# Altium schematic symbol library WE-WPCC.SchLib: 65 symbols (part 1 of 2)
Pins are listed as number, name and electrical type; pins without a type are passive.

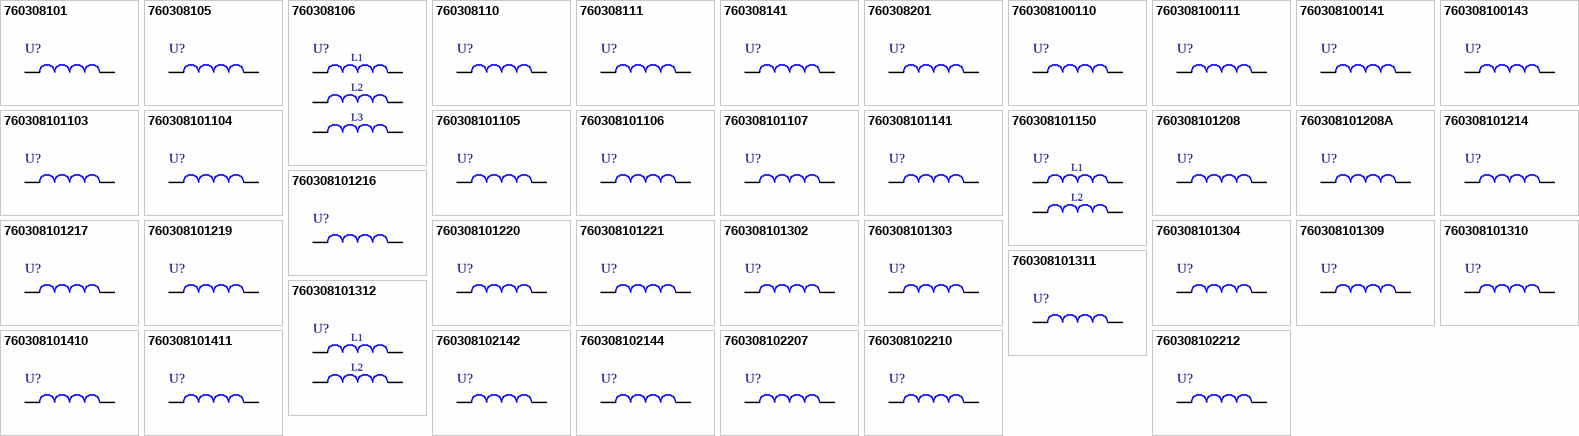
[diagram p0: symbols 760308101 to 760308102212]

## 760308101
designator U?, comment 24μH  (value not drawn)
WE-WPCC Wireless Power Transfer Transmitter Coil, THT, Qi - A1, 24μH, 100W; Manufacturer Part Number: 760308101; Manufacturer: Wurth Elektronik; Compliance: Qi - A1; DC Resistance Max: 100mΩ; Q Factor: 90; Rated Current: 6A; Self Resonant Frequency: 6MHz; Category: Wireless Power Transmission; Match Code: WE-WPCC; ComponentLink1Description: Website Link; ComponentLink1URL: https://www.we-online.com/redexpert/article/760308101?ad; ComponentLink2Description: Datasheet Link; ComponentLink2URL: https://www.we-online.com/redexpert/spec/760308101?ad; Mount: Through Hole; Min Operating Temperature: -20°C; Max Operating Temperature: 105°C; Packaging: Tray; Length: 53mm; Width: 53mm; Height: 6mm; Inductance: 24μH; Power Capability: 100W
footprint 760308101
pins: 1, 2

## 760308105
designator U?, comment 6.3μH  (value not drawn)
WE-WPCC Wireless Power Transfer Transmitter Coil, THT, Qi - A5, 6.3μH, 200W; Manufacturer Part Number: 760308105; Manufacturer: Wurth Elektronik; Compliance: Qi - A5; DC Resistance Max: 25mΩ; Q Factor: 55; Rated Current: 13A; Self Resonant Frequency: 20MHz; Category: Wireless Power Transmission; Match Code: WE-WPCC; ComponentLink1Description: Website Link; ComponentLink1URL: https://www.we-online.com/redexpert/article/760308105?ad; ComponentLink2Description: Datasheet Link; ComponentLink2URL: https://www.we-online.com/redexpert/spec/760308105?ad; Mount: Through Hole; Min Operating Temperature: -20°C; Max Operating Temperature: 105°C; Packaging: Tray; Length: 53mm; Width: 53mm; Height: 6mm; Inductance: 6.3μH; Power Capability: 200W
footprint 760308105
pins: 1, 2

## 760308106
designator U?, comment 12.5μH / 11.5μH / 12.5μH  (value not drawn)
WE-WPCC Wireless Power Array, THT, Qi - A6, 12.5μH / 11.5μH / 12.5μH, 150W; Manufacturer Part Number: 760308106; Manufacturer: Wurth Elektronik; Compliance: Qi - A6; DC Resistance Max: 65mΩ; Q Factor: 125; Rated Current: 9A; Self Resonant Frequency: 14MHz; Category: Wireless Power Transmission; Match Code: WE-WPCC; ComponentLink1Description: Website Link; ComponentLink1URL: https://www.we-online.com/redexpert/article/760308106?ad; ComponentLink2Description: Datasheet Link; ComponentLink2URL: https://www.we-online.com/redexpert/spec/760308106?ad; Mount: Through Hole; Min Operating Temperature: -20°C; Max Operating Temperature: 105°C; Packaging: Tray; Length: 130mm; Width: 55mm; Height: 8mm; DC Resistance Max 2: 65mΩ; DC Resistance Max 3: 65mΩ; Inductance: 12.5μH; Inductance 2: 11.5μH; Inductance 3: 12.5μH; Power Capability: 150W; Q Factor 2: 125; Q Factor 3: 125; Rated Current 2: 9A; Rated Current 3: 9A; Self Resonant Frequency 2: 14MHz; Self Resonant Frequency 3: 14MHz
footprint 760308106
pins: 1, 2, 3, 4, 5, 6
text: L1; L2; L3

## 760308110
designator U?, comment 24μH  (value not drawn)
WE-WPCC Wireless Power Transfer Transmitter Coil, THT, Qi - A10; MP-A1/A7, 24μH, 100W; Manufacturer Part Number: 760308110; Manufacturer: Wurth Elektronik; DC Resistance Max: 100mΩ; Q Factor: 180; Rated Current: 6A; Self Resonant Frequency: 5MHz; Category: Wireless Power Transmission; Match Code: WE-WPCC; ComponentLink1Description: Website Link; ComponentLink1URL: https://www.we-online.com/redexpert/article/760308110?ad; ComponentLink2Description: Datasheet Link; ComponentLink2URL: https://www.we-online.com/redexpert/spec/760308110?ad; Mount: Through Hole; Min Operating Temperature: -20°C; Max Operating Temperature: 105°C; Packaging: Tray; Length: 53mm; Width: 53mm; Height: 6mm; Compliance: Qi - A10; MP-A1/A7; Inductance: 24μH; Power Capability: 100W
footprint 760308110
pins: 1, 2

## 760308111
designator U?, comment 6.3μH  (value not drawn)
WE-WPCC Wireless Power Transfer Transmitter Coil, THT, Qi - A11; MP-A11, 6.3μH, 200W; Manufacturer Part Number: 760308111; Manufacturer: Wurth Elektronik; DC Resistance Max: 25mΩ; Q Factor: 80; Rated Current: 13A; Self Resonant Frequency: 20MHz; Category: Wireless Power Transmission; Match Code: WE-WPCC; ComponentLink1Description: Website Link; ComponentLink1URL: https://www.we-online.com/redexpert/article/760308111?ad; ComponentLink2Description: Datasheet Link; ComponentLink2URL: https://www.we-online.com/redexpert/spec/760308111?ad; Mount: Through Hole; Min Operating Temperature: -20°C; Max Operating Temperature: 105°C; Packaging: Tray; Length: 53mm; Width: 53mm; Height: 6mm; Compliance: Qi - A11; MP-A11; Inductance: 6.3μH; Power Capability: 200W
footprint 760308111
pins: 1, 2

## 760308141
designator U?, comment 10μH  (value not drawn)
WE-WPCC Wireless Power Transfer Transmitter Coil, THT, Qi - A29; MP-A5, 10μH, 150W; Manufacturer Part Number: 760308141; Manufacturer: Wurth Elektronik; DC Resistance Max: 30mΩ; Q Factor: 200; Rated Current: 9A; Self Resonant Frequency: 11MHz; Category: Wireless Power Transmission; Match Code: WE-WPCC; ComponentLink1Description: Website Link; ComponentLink1URL: https://www.we-online.com/redexpert/article/760308141?ad; ComponentLink2Description: Datasheet Link; ComponentLink2URL: https://www.we-online.com/redexpert/spec/760308141?ad; Mount: Through Hole; Min Operating Temperature: -20°C; Max Operating Temperature: 105°C; Packaging: Tray; Length: 53mm; Width: 53mm; Height: 6mm; Compliance: Qi - A29; MP-A5; Inductance: 10μH; Power Capability: 150W
footprint 760308141
pins: 1, 2

## 760308201
designator U?, comment 10μH  (value not drawn)
WE-WPCC Wireless Power Transfer Receiver Coil, THT, works with Qi Rx IC's, 10μH, 60W; Manufacturer Part Number: 760308201; Manufacturer: Wurth Elektronik; DC Resistance Max: 200mΩ; Q Factor: 50; Rated Current: 3.5A; Self Resonant Frequency: 15MHz; Category: Wireless Power Transmission; Match Code: WE-WPCC; ComponentLink1Description: Website Link; ComponentLink1URL: https://www.we-online.com/redexpert/article/760308201?ad; ComponentLink2Description: Datasheet Link; ComponentLink2URL: https://www.we-online.com/redexpert/spec/760308201?ad; Mount: Through Hole; Min Operating Temperature: -20°C; Max Operating Temperature: 105°C; Packaging: Tray; Length: 37mm; Width: 37mm; Height: 1.8mm; Compliance: works with Qi Rx IC's; Inductance: 10μH; Power Capability: 60W
footprint 760308201
pins: 1, 2

## 760308100110
designator U?, comment 24μH  (value not drawn)
WE-WPCC Wireless Power Transfer Transmitter Coil, THT, Qi - A10; MP-A1/A7, 24μH, 100W; Manufacturer Part Number: 760308100110; Manufacturer: Wurth Elektronik; DC Resistance Max: 100mΩ; Q Factor: 180; Rated Current: 6A; Self Resonant Frequency: 5MHz; Category: Wireless Power Transmission; Match Code: WE-WPCC; ComponentLink1Description: Website Link; ComponentLink1URL: https://www.we-online.com/redexpert/article/760308100110?ad; ComponentLink2Description: Datasheet Link; ComponentLink2URL: https://www.we-online.com/redexpert/spec/760308100110?ad; Mount: Through Hole; Min Operating Temperature: -20°C; Max Operating Temperature: 105°C; Packaging: Tray; Height: 6mm; Diameter: 50mm; Compliance: Qi - A10; MP-A1/A7; Inductance: 24μH; Power Capability: 100W
footprint 760308100110
pins: 1, 2

## 760308100111
designator U?, comment 6.3μH  (value not drawn)
WE-WPCC Wireless Power Transfer Transmitter Coil, THT, Qi - A11; MP-A11, 6.3μH, 100W; Manufacturer Part Number: 760308100111; Manufacturer: Wurth Elektronik; DC Resistance Max: 51mΩ; Q Factor: 120; Rated Current: 6A; Self Resonant Frequency: 24MHz; Category: Wireless Power Transmission; Match Code: WE-WPCC; ComponentLink1Description: Website Link; ComponentLink1URL: https://www.we-online.com/redexpert/article/760308100111?ad; ComponentLink2Description: Datasheet Link; ComponentLink2URL: https://www.we-online.com/redexpert/spec/760308100111?ad; Mount: Through Hole; Min Operating Temperature: -20°C; Max Operating Temperature: 105°C; Packaging: Tray; Height: 6mm; Diameter: 50mm; Compliance: Qi - A11; MP-A11; Inductance: 6.3μH; Power Capability: 100W
footprint 760308100111
pins: 1, 2

## 760308100141
designator U?, comment 10μH  (value not drawn)
WE-WPCC Wireless Power Transfer Transmitter Coil, THT, Qi - A29; MP-A5, 10μH, 150W; Manufacturer Part Number: 760308100141; Manufacturer: Wurth Elektronik; DC Resistance Max: 30mΩ; Q Factor: 180; Rated Current: 9A; Self Resonant Frequency: 11MHz; Category: Wireless Power Transmission; Match Code: WE-WPCC; ComponentLink1Description: Website Link; ComponentLink1URL: https://www.we-online.com/redexpert/article/760308100141?ad; ComponentLink2Description: Datasheet Link; ComponentLink2URL: https://www.we-online.com/redexpert/spec/760308100141?ad; Mount: Through Hole; Min Operating Temperature: -20°C; Max Operating Temperature: 105°C; Packaging: Tray; Height: 6mm; Diameter: 50mm; Compliance: Qi - A29; MP-A5; Inductance: 10μH; Power Capability: 150W
footprint 760308100141
pins: 1, 2

## 760308100143
designator U?, comment 6μH  (value not drawn)
WE-WPCC Wireless Power Transfer Transmitter Coil, THT, works with Qi Tx IC's, 6μH, 200W; Manufacturer Part Number: 760308100143; Manufacturer: Wurth Elektronik; DC Resistance Max: 18mΩ; Q Factor: 180; Rated Current: 12A; Self Resonant Frequency: 16MHz; Category: Wireless Power Transmission; Match Code: WE-WPCC; ComponentLink1Description: Website Link; ComponentLink1URL: https://www.we-online.com/redexpert/article/760308100143?ad; ComponentLink2Description: Datasheet Link; ComponentLink2URL: https://www.we-online.com/redexpert/spec/760308100143?ad; Mount: Through Hole; Min Operating Temperature: -20°C; Max Operating Temperature: 105°C; Packaging: Tray; Height: 6.7mm; Diameter: 50mm; Compliance: works with Qi Tx IC's; Inductance: 6μH; Power Capability: 200W
footprint 760308100143
pins: 1, 2

## 760308101103
designator U?, comment 6.5μH  (value not drawn)
WE-WPCC Wireless Power Transfer Transmitter Coil, THT, works with Qi Tx IC's, 6.5μH, 50W; Manufacturer Part Number: 760308101103; Manufacturer: Wurth Elektronik; DC Resistance Max: 200mΩ; Q Factor: 35; Rated Current: 3A; Self Resonant Frequency: 20MHz; Category: Wireless Power Transmission; Match Code: WE-WPCC; ComponentLink1Description: Website Link; ComponentLink1URL: https://www.we-online.com/redexpert/article/760308101103?ad; ComponentLink2Description: Datasheet Link; ComponentLink2URL: https://www.we-online.com/redexpert/spec/760308101103?ad; Mount: Through Hole; Min Operating Temperature: -20°C; Max Operating Temperature: 105°C; Packaging: Tray; Height: 1.9mm; Diameter: 30mm; Compliance: works with Qi Tx IC's; Inductance: 6.5μH; Power Capability: 50W
footprint 760308101103
pins: 1, 2

## 760308101104
designator U?, comment 6.8μH  (value not drawn)
WE-WPCC Wireless Power Transfer Transmitter Coil, THT, works with Qi Tx IC's, 6.8μH, 50W; Manufacturer Part Number: 760308101104; Manufacturer: Wurth Elektronik; DC Resistance Max: 130mΩ; Q Factor: 42; Rated Current: 2.5A; Self Resonant Frequency: 20MHz; Category: Wireless Power Transmission; Match Code: WE-WPCC; ComponentLink1Description: Website Link; ComponentLink1URL: https://www.we-online.com/redexpert/article/760308101104?ad; ComponentLink2Description: Datasheet Link; ComponentLink2URL: https://www.we-online.com/redexpert/spec/760308101104?ad; Mount: Through Hole; Min Operating Temperature: -20°C; Max Operating Temperature: 105°C; Packaging: Tray; Height: 2.8mm; Diameter: 20mm; Compliance: works with Qi Tx IC's; Inductance: 6.8μH; Power Capability: 50W
footprint 760308101104
pins: 1, 2

## 760308101105
designator U?, comment 3.3μH  (value not drawn)
WE-WPCC Wireless Power Transfer Transmitter Coil, THT, works with Qi Tx IC's, 3.3μH, 50W; Manufacturer Part Number: 760308101105; Manufacturer: Wurth Elektronik; DC Resistance Max: 90mΩ; Q Factor: 30; Rated Current: 3A; Self Resonant Frequency: 20MHz; Category: Wireless Power Transmission; Match Code: WE-WPCC; ComponentLink1Description: Website Link; ComponentLink1URL: https://www.we-online.com/redexpert/article/760308101105?ad; ComponentLink2Description: Datasheet Link; ComponentLink2URL: https://www.we-online.com/redexpert/spec/760308101105?ad; Mount: Through Hole; Min Operating Temperature: -20°C; Max Operating Temperature: 105°C; Packaging: Tray; Height: 2.8mm; Diameter: 20mm; Compliance: works with Qi Tx IC's; Inductance: 3.3μH; Power Capability: 50W
footprint 760308101105
pins: 1, 2

## 760308101106
designator U?, comment 2.5μH  (value not drawn)
WE-WPCC Wireless Power Transfer Transmitter Coil, THT, works with Qi Tx IC's, 2.5μH, 50W; Manufacturer Part Number: 760308101106; Manufacturer: Wurth Elektronik; DC Resistance Max: 90mΩ; Q Factor: 30; Rated Current: 2.5A; Self Resonant Frequency: 38MHz; Category: Wireless Power Transmission; Match Code: WE-WPCC; ComponentLink1Description: Website Link; ComponentLink1URL: https://www.we-online.com/redexpert/article/760308101106?ad; ComponentLink2Description: Datasheet Link; ComponentLink2URL: https://www.we-online.com/redexpert/spec/760308101106?ad; Mount: Through Hole; Min Operating Temperature: -20°C; Max Operating Temperature: 105°C; Packaging: Tray; Height: 2.8mm; Diameter: 20mm; Compliance: works with Qi Tx IC's; Inductance: 2.5μH; Power Capability: 50W
footprint 760308101106
pins: 1, 2

## 760308101107
designator U?, comment 24μH  (value not drawn)
WE-WPCC Wireless Power Transfer Transmitter Coil, THT, works with Qi Tx IC's, 24μH, 40W; Manufacturer Part Number: 760308101107; Manufacturer: Wurth Elektronik; DC Resistance Max: 315mΩ; Q Factor: 55; Rated Current: 2A; Self Resonant Frequency: 7.5MHz; Category: Wireless Power Transmission; Match Code: WE-WPCC; ComponentLink1Description: Website Link; ComponentLink1URL: https://www.we-online.com/redexpert/article/760308101107?ad; ComponentLink2Description: Datasheet Link; ComponentLink2URL: https://www.we-online.com/redexpert/spec/760308101107?ad; Mount: Through Hole; Min Operating Temperature: -20°C; Max Operating Temperature: 105°C; Packaging: Tray; Height: 2.8mm; Diameter: 31mm; Compliance: works with Qi Tx IC's; Inductance: 24μH; Power Capability: 40W
footprint 760308101107
pins: 1, 2

## 760308101141
designator U?, comment 10μH  (value not drawn)
WE-WPCC Wireless Power Transfer Transmitter Coil, THT, Qi - A29; MP-A5, 10μH, 150W; Manufacturer Part Number: 760308101141; Manufacturer: Wurth Elektronik; DC Resistance Max: 30mΩ; Q Factor: 220; Rated Current: 9A; Self Resonant Frequency: 11MHz; Category: Wireless Power Transmission; Match Code: WE-WPCC; ComponentLink1Description: Website Link; ComponentLink1URL: https://www.we-online.com/redexpert/article/760308101141?ad; ComponentLink2Description: Datasheet Link; ComponentLink2URL: https://www.we-online.com/redexpert/spec/760308101141?ad; Mount: Through Hole; Min Operating Temperature: -20°C; Max Operating Temperature: 105°C; Packaging: Tray; Height: 5mm; Diameter: 50mm; Compliance: Qi - A29; MP-A5; Inductance: 10μH; Power Capability: 150W
footprint 760308101141
pins: 1, 2

## 760308101150
designator U?, comment 6.3μH / 1.2μH  (value not drawn)
WE-WPCC Wireless Power Transfer Transmitter Coil, THT, Qi - Airfuel Alliance - NFC, 6.3μH / 1.2μH, 100W; Manufacturer Part Number: 760308101150; Manufacturer: Wurth Elektronik; DC Resistance Max: 48mΩ; DC Resistance Max 2: 55mΩ; Q Factor: 100; Q Factor 2: 80; Rated Current: 7.5A; Rated Current 2: 7A; Self Resonant Frequency: 27MHz; Self Resonant Frequency 2: 48MHz; Category: Wireless Power Transmission; Match Code: WE-WPCC; ComponentLink1Description: Website Link; ComponentLink1URL: https://www.we-online.com/redexpert/article/760308101150?ad; ComponentLink2Description: Datasheet Link; ComponentLink2URL: https://www.we-online.com/redexpert/spec/760308101150?ad; Mount: Through Hole; Min Operating Temperature: -20°C; Max Operating Temperature: 105°C; Packaging: Tray; Height: 3.5mm; Diameter: 65mm; Compliance: Qi - Airfuel Alliance - NFC; Inductance: 6.3μH; Inductance 2: 1.2μH; Power Capability: 100W
footprint 760308101150
pins: 1, 2, 3, 4
text: L1; L2

## 760308101208
designator U?, comment 13μH  (value not drawn)
WE-WPCC Wireless Power Transfer Receiver Coil, THT, works with Qi Rx IC's, 13μH, 15W; Manufacturer Part Number: 760308101208; Manufacturer: Wurth Elektronik; DC Resistance Max: 500mΩ; Q Factor: 17; Rated Current: 0.8A; Self Resonant Frequency: 26MHz; Category: Wireless Power Transmission; Match Code: WE-WPCC; ComponentLink1Description: Website Link; ComponentLink1URL: https://www.we-online.com/redexpert/article/760308101208?ad; ComponentLink2Description: Datasheet Link; ComponentLink2URL: https://www.we-online.com/redexpert/spec/760308101208?ad; Mount: Through Hole; Min Operating Temperature: -20°C; Max Operating Temperature: 105°C; Packaging: Tray; Height: 1.6mm; Diameter: 10mm; Compliance: works with Qi Rx IC's; Inductance: 13μH; Power Capability: 15W
footprint 760308101208
pins: 1, 2

## 760308101208A
designator U?, comment 18μH  (value not drawn)
WE-WPCC Wireless Power Transfer Receiver Coil, THT, works with Qi Rx IC's, 18μH, 15W; Manufacturer Part Number: 760308101208A; Manufacturer: Wurth Elektronik; DC Resistance Max: 650mΩ; Q Factor: 18; Rated Current: 0.7A; Self Resonant Frequency: 24MHz; Category: Wireless Power Transmission; Match Code: WE-WPCC; ComponentLink1Description: Website Link; ComponentLink1URL: https://www.we-online.com/redexpert/article/760308101208A?ad; ComponentLink2Description: Datasheet Link; ComponentLink2URL: https://www.we-online.com/redexpert/spec/760308101208A?ad; Mount: Through Hole; Min Operating Temperature: -20°C; Max Operating Temperature: 105°C; Packaging: Tray; Height: 1.6mm; Diameter: 10mm; Compliance: works with Qi Rx IC's; Inductance: 18μH; Power Capability: 15W
footprint 760308101208A
pins: 1, 2

## 760308101214
designator U?, comment 26μH  (value not drawn)
WE-WPCC Wireless Power Transfer Receiver Coil, THT, works with Qi Rx IC's, 26μH, 20W; Manufacturer Part Number: 760308101214; Manufacturer: Wurth Elektronik; DC Resistance Max: 520mΩ; Q Factor: 25; Rated Current: 1.1A; Self Resonant Frequency: 11MHz; Category: Wireless Power Transmission; Match Code: WE-WPCC; ComponentLink1Description: Website Link; ComponentLink1URL: https://www.we-online.com/redexpert/article/760308101214?ad; ComponentLink2Description: Datasheet Link; ComponentLink2URL: https://www.we-online.com/redexpert/spec/760308101214?ad; Mount: Through Hole; Min Operating Temperature: -20°C; Max Operating Temperature: 105°C; Packaging: Tray; Height: 0.8mm; Diameter: 19mm; Compliance: works with Qi Rx IC's; Inductance: 26μH; Power Capability: 20W
footprint 760308101214
pins: 1, 2

## 760308101216
designator U?, comment 7.2μH  (value not drawn)
WE-WPCC Wireless Power Transfer Receiver Coil, THT, works with Qi Rx IC's, 7.2μH, 5W; Manufacturer Part Number: 760308101216; Manufacturer: Wurth Elektronik; DC Resistance Max: 450mΩ; Q Factor: 10; Rated Current: 0.8A; Self Resonant Frequency: 32MHz; Category: Wireless Power Transmission; Match Code: WE-WPCC; ComponentLink1Description: Website Link; ComponentLink1URL: https://www.we-online.com/redexpert/article/760308101216?ad; ComponentLink2Description: Datasheet Link; ComponentLink2URL: https://www.we-online.com/redexpert/spec/760308101216?ad; Mount: Through Hole; Min Operating Temperature: -20°C; Max Operating Temperature: 105°C; Packaging: Tray; Height: 2mm; Diameter: 6mm; Compliance: works with Qi Rx IC's; Inductance: 7.2μH; Power Capability: 5W
footprint 760308101216
pins: 1, 2

## 760308101217
designator U?, comment 24.2μH  (value not drawn)
WE-WPCC Wireless Power Transfer Receiver Coil, THT, works with Qi Rx IC's, 24.2μH, 5W; Manufacturer Part Number: 760308101217; Manufacturer: Wurth Elektronik; DC Resistance Max: 1400mΩ; Q Factor: 13; Rated Current: 0.4A; Self Resonant Frequency: 17.5MHz; Category: Wireless Power Transmission; Match Code: WE-WPCC; ComponentLink1Description: Website Link; ComponentLink1URL: https://www.we-online.com/redexpert/article/760308101217?ad; ComponentLink2Description: Datasheet Link; ComponentLink2URL: https://www.we-online.com/redexpert/spec/760308101217?ad; Mount: Through Hole; Min Operating Temperature: -20°C; Max Operating Temperature: 105°C; Packaging: Tray; Height: 1.8mm; Diameter: 10mm; Compliance: works with Qi Rx IC's; Inductance: 24.2μH; Power Capability: 5W
footprint 760308101217
pins: 1, 2

## 760308101219
designator U?, comment 11.8μH  (value not drawn)
WE-WPCC Wireless Power Transfer Receiver Coil, THT, works with Qi Rx IC's, 11.8μH, 5W; Manufacturer Part Number: 760308101219; Manufacturer: Wurth Elektronik; DC Resistance Max: 750mΩ; Q Factor: 13; Rated Current: 0.7A; Self Resonant Frequency: 22MHz; Category: Wireless Power Transmission; Match Code: WE-WPCC; ComponentLink1Description: Website Link; ComponentLink1URL: https://www.we-online.com/redexpert/article/760308101219?ad; ComponentLink2Description: Datasheet Link; ComponentLink2URL: https://www.we-online.com/redexpert/spec/760308101219?ad; Mount: Through Hole; Min Operating Temperature: -20°C; Max Operating Temperature: 105°C; Packaging: Tray; Height: 0.6mm; Diameter: 15mm; Compliance: works with Qi Rx IC's; Inductance: 11.8μH; Power Capability: 5W
footprint 760308101219
pins: 1, 2

## 760308101220
designator U?, comment 12.6μH  (value not drawn)
WE-WPCC Wireless Power Transfer Receiver Coil, THT, works with Qi Rx IC's, 12.6μH, 20W; Manufacturer Part Number: 760308101220; Manufacturer: Wurth Elektronik; DC Resistance Max: 360mΩ; Q Factor: 20; Rated Current: 1.1A; Self Resonant Frequency: 19MHz; Category: Wireless Power Transmission; Match Code: WE-WPCC; ComponentLink1Description: Website Link; ComponentLink1URL: https://www.we-online.com/redexpert/article/760308101220?ad; ComponentLink2Description: Datasheet Link; ComponentLink2URL: https://www.we-online.com/redexpert/spec/760308101220?ad; Mount: Through Hole; Min Operating Temperature: -20°C; Max Operating Temperature: 105°C; Packaging: Tray; Height: 0.8mm; Diameter: 17mm; Compliance: works with Qi Rx IC's; Inductance: 12.6μH; Power Capability: 20W
footprint 760308101220
pins: 1, 2

## 760308101221
designator U?, comment 24μH  (value not drawn)
WE-WPCC Wireless Power Transfer Receiver Coil, THT, works with Qi Rx IC's, 24μH, 5W; Manufacturer Part Number: 760308101221; Manufacturer: Wurth Elektronik; DC Resistance Max: 1150mΩ; Q Factor: 16; Rated Current: 0.4A; Self Resonant Frequency: 10MHz; Category: Wireless Power Transmission; Match Code: WE-WPCC; ComponentLink1Description: Website Link; ComponentLink1URL: https://www.we-online.com/redexpert/article/760308101221?ad; ComponentLink2Description: Datasheet Link; ComponentLink2URL: https://www.we-online.com/redexpert/spec/760308101221?ad; Mount: Through Hole; Min Operating Temperature: -20°C; Max Operating Temperature: 105°C; Packaging: Tray; Height: 4.3mm; Diameter: 6mm; Compliance: works with Qi Rx IC's; Inductance: 24μH; Power Capability: 5W
footprint 760308101221
pins: 1, 2

## 760308101302
designator U?, comment 5.3μH  (value not drawn)
WE-WPCC Wireless Power Transfer Transmitter Coil, THT, works with Qi Tx IC's, 5.3μH, 100W; Manufacturer Part Number: 760308101302; Manufacturer: Wurth Elektronik; DC Resistance Max: 35mΩ; Q Factor: 100; Rated Current: 8A; Self Resonant Frequency: 27MHz; Category: Wireless Power Transmission; Match Code: WE-WPCC; ComponentLink1Description: Website Link; ComponentLink1URL: https://www.we-online.com/redexpert/article/760308101302?ad; ComponentLink2Description: Datasheet Link; ComponentLink2URL: https://www.we-online.com/redexpert/spec/760308101302?ad; Mount: Through Hole; Min Operating Temperature: -20°C; Max Operating Temperature: 105°C; Packaging: Tray; Height: 4.7mm; Diameter: 50mm; Compliance: works with Qi Tx IC's; Inductance: 5.3μH; Power Capability: 100W
footprint 760308101302
pins: 1, 2

## 760308101303
designator U?, comment 47μH  (value not drawn)
WE-WPCC Wireless Power Transfer Receiver Coil, THT, works with Qi Rx IC's, 47μH, 20W; Manufacturer Part Number: 760308101303; Manufacturer: Wurth Elektronik; DC Resistance Max: 500mΩ; Q Factor: 25; Rated Current: 1.5A; Self Resonant Frequency: 8MHz; Category: Wireless Power Transmission; Match Code: WE-WPCC; ComponentLink1Description: Website Link; ComponentLink1URL: https://www.we-online.com/redexpert/article/760308101303?ad; ComponentLink2Description: Datasheet Link; ComponentLink2URL: https://www.we-online.com/redexpert/spec/760308101303?ad; Mount: Through Hole; Min Operating Temperature: -20°C; Max Operating Temperature: 105°C; Packaging: Tray; Height: 1.3mm; Diameter: 26mm; Compliance: works with Qi Rx IC's; Inductance: 47μH; Power Capability: 20W
footprint 760308101303
pins: 1, 2

## 760308101304
designator U?, comment 6.3μH  (value not drawn)
WE-WPCC Wireless Power Transfer Transmitter Coil, THT, Qi-A11; MP-A11, 6.3μH, 100W; Manufacturer Part Number: 760308101304; Manufacturer: Wurth Elektronik; DC Resistance Max: 48mΩ; Q Factor: 115; Rated Current: 8A; Self Resonant Frequency: 16MHz; Category: Wireless Power Transmission; Match Code: WE-WPCC; ComponentLink1Description: Website Link; ComponentLink1URL: https://www.we-online.com/redexpert/article/760308101304?ad; ComponentLink2Description: Datasheet Link; ComponentLink2URL: https://www.we-online.com/redexpert/spec/760308101304?ad; Mount: Through Hole; Min Operating Temperature: -20°C; Max Operating Temperature: 105°C; Packaging: Tray; Height: 3mm; Diameter: 48mm; Compliance: Qi-A11; MP-A11; Inductance: 6.3μH; Power Capability: 100W
footprint 760308101304
pins: 1, 2

## 760308101309
designator U?, comment 10μH  (value not drawn)
WE-WPCC Wireless Power Transfer Receiver Coil, THT, works with Qi Rx IC's, 10μH, 20W; Manufacturer Part Number: 760308101309; Manufacturer: Wurth Elektronik; DC Resistance Max: 450mΩ; Q Factor: 20; Rated Current: 1.5A; Self Resonant Frequency: 19MHz; Category: Wireless Power Transmission; Match Code: WE-WPCC; ComponentLink1Description: Website Link; ComponentLink1URL: https://www.we-online.com/redexpert/article/760308101309?ad; ComponentLink2Description: Datasheet Link; ComponentLink2URL: https://www.we-online.com/redexpert/spec/760308101309?ad; Mount: Through Hole; Min Operating Temperature: -20°C; Max Operating Temperature: 105°C; Packaging: Tray; Height: 0.5mm; Diameter: 26mm; Compliance: works with Qi Rx IC's; Inductance: 10μH; Power Capability: 20W
footprint 760308101309
pins: 1, 2

## 760308101310
designator U?, comment 24μH  (value not drawn)
WE-WPCC Wireless Power Transfer Transmitter Coil, THT, works with Qi Tx IC's, 24μH, 100W; Manufacturer Part Number: 760308101310; Manufacturer: Wurth Elektronik; DC Resistance Max: 110mΩ; Q Factor: 155; Rated Current: 7.5A; Self Resonant Frequency: 7.7MHz; Category: Wireless Power Transmission; Match Code: WE-WPCC; ComponentLink1Description: Website Link; ComponentLink1URL: https://www.we-online.com/redexpert/article/760308101310?ad; ComponentLink2Description: Datasheet Link; ComponentLink2URL: https://www.we-online.com/redexpert/spec/760308101310?ad; Mount: Through Hole; Min Operating Temperature: -20°C; Max Operating Temperature: 105°C; Packaging: Tray; Height: 3.3mm; Diameter: 75mm; Compliance: works with Qi Tx IC's; Inductance: 24μH; Power Capability: 100W
footprint 760308101310
pins: 1, 2

## 760308101311
designator U?, comment 5.8μH  (value not drawn)
WE-WPCC Wireless Power Transfer Receiver Coil, THT, works with Qi Tx IC's, 5.8μH, 400W; Manufacturer Part Number: 760308101311; Manufacturer: Wurth Elektronik; DC Resistance Max: 14mΩ; Q Factor: 220; Rated Current: 21A; Self Resonant Frequency: 13MHz; Category: Wireless Power Transmission; Match Code: WE-WPCC; ComponentLink1Description: Website Link; ComponentLink1URL: https://www.we-online.com/redexpert/article/760308101311?ad; ComponentLink2Description: Datasheet Link; ComponentLink2URL: https://www.we-online.com/redexpert/spec/760308101311?ad; Mount: Through Hole; Min Operating Temperature: -20°C; Max Operating Temperature: 105°C; Packaging: Tray; Height: 8.5mm; Diameter: 70mm; Compliance: works with Qi Tx IC's; Inductance: 5.8μH; Power Capability: 400W
footprint 760308101311
pins: 1, 2

## 760308101312
designator U?, comment 24μH / 0.7μH  (value not drawn)
WE-WPCC WPT/NFC Combination Coil, THT, Qi - Airfuel Alliance - NFC, 24μH / 0.7μH, 100W; Manufacturer Part Number: 760308101312; Manufacturer: Wurth Elektronik; DC Resistance Max: 90mΩ; DC Resistance Max 2: 30mΩ; Q Factor: 125; Q Factor 2: 30; Rated Current: 6A; Rated Current 2: 13A; Self Resonant Frequency: 7MHz; Self Resonant Frequency 2: 63MHz; Category: Wireless Power Transmission; Match Code: WE-WPCC; ComponentLink1Description: Website Link; ComponentLink1URL: https://www.we-online.com/redexpert/article/760308101312?ad; ComponentLink2Description: Datasheet Link; ComponentLink2URL: https://www.we-online.com/redexpert/spec/760308101312?ad; Mount: Through Hole; Min Operating Temperature: -20°C; Max Operating Temperature: 105°C; Packaging: Tray; Height: 4mm; Diameter: 54mm; Compliance: Qi - Airfuel Alliance - NFC; Inductance: 24μH; Inductance 2: 0.7μH; Power Capability: 100W
footprint 760308101312
pins: 1, 2, 3, 4
text: L1; L2

## 760308101410
designator U?, comment 24μH  (value not drawn)
WE-WPCC Wireless Power Transfer Transmitter Coil, THT, works with Qi Tx IC's, 24μH, 100W; Manufacturer Part Number: 760308101410; Manufacturer: Wurth Elektronik; DC Resistance Max: 100mΩ; Q Factor: 170; Rated Current: 5.5A; Self Resonant Frequency: 6MHz; Category: Wireless Power Transmission; Match Code: WE-WPCC; ComponentLink1Description: Website Link; ComponentLink1URL: https://www.we-online.com/redexpert/article/760308101410?ad; ComponentLink2Description: Datasheet Link; ComponentLink2URL: https://www.we-online.com/redexpert/spec/760308101410?ad; Mount: Through Hole; Min Operating Temperature: -20°C; Max Operating Temperature: 105°C; Packaging: Tray; Height: 3.1mm; Diameter: 50mm; Compliance: works with Qi Tx IC's; Inductance: 24μH; Power Capability: 100W
footprint 760308101410
pins: 1, 2

## 760308101411
designator U?, comment 6.3μH  (value not drawn)
WE-WPCC Wireless Power Transfer Transmitter Coil, THT, works with Qi Tx IC's, 6.3μH, 150W; Manufacturer Part Number: 760308101411; Manufacturer: Wurth Elektronik; DC Resistance Max: 48mΩ; Q Factor: 110; Rated Current: 7.5A; Self Resonant Frequency: 20MHz; Category: Wireless Power Transmission; Match Code: WE-WPCC; ComponentLink1Description: Website Link; ComponentLink1URL: https://www.we-online.com/redexpert/article/760308101411?ad; ComponentLink2Description: Datasheet Link; ComponentLink2URL: https://www.we-online.com/redexpert/spec/760308101411?ad; Mount: Through Hole; Min Operating Temperature: -20°C; Max Operating Temperature: 105°C; Packaging: Tray; Height: 2.8mm; Diameter: 50mm; Compliance: works with Qi Tx IC's; Inductance: 6.3μH; Power Capability: 150W
footprint 760308101411
pins: 1, 2

## 760308102142
designator U?, comment 5.8μH  (value not drawn)
WE-WPCC Wireless Power Transfer Transmitter Coil, THT, works with Qi Tx IC's, 5.8μH, 300W; Manufacturer Part Number: 760308102142; Manufacturer: Wurth Elektronik; DC Resistance Max: 12mΩ; Q Factor: 100; Rated Current: 18A; Self Resonant Frequency: 12MHz; Category: Wireless Power Transmission; Match Code: WE-WPCC; ComponentLink1Description: Website Link; ComponentLink1URL: https://www.we-online.com/redexpert/article/760308102142?ad; ComponentLink2Description: Datasheet Link; ComponentLink2URL: https://www.we-online.com/redexpert/spec/760308102142?ad; Mount: Through Hole; Min Operating Temperature: -20°C; Max Operating Temperature: 105°C; Packaging: Tray; Length: 53mm; Width: 53mm; Height: 6.5mm; Compliance: works with Qi Tx IC's; Inductance: 5.8μH; Power Capability: 300W
footprint 760308102142
pins: 1, 2

## 760308102144
designator U?, comment 19.5μH  (value not drawn)
WE-WPCC Wireless Power Transfer Transmitter Coil, THT, works with Qi Tx IC's, 19.5μH, 200W; Manufacturer Part Number: 760308102144; Manufacturer: Wurth Elektronik; DC Resistance Max: 45mΩ; Q Factor: 220; Rated Current: 9.5A; Self Resonant Frequency: 5MHz; Category: Wireless Power Transmission; Match Code: WE-WPCC; ComponentLink1Description: Website Link; ComponentLink1URL: https://www.we-online.com/redexpert/article/760308102144?ad; ComponentLink2Description: Datasheet Link; ComponentLink2URL: https://www.we-online.com/redexpert/spec/760308102144?ad; Mount: Through Hole; Min Operating Temperature: -20°C; Max Operating Temperature: 105°C; Packaging: Tray; Length: 53mm; Width: 53mm; Height: 7mm; Compliance: works with Qi Tx IC's; Inductance: 19.5μH; Power Capability: 200W
footprint 760308102144
pins: 1, 2

## 760308102207
designator U?, comment 8μH  (value not drawn)
WE-WPCC Wireless Power Transfer Receiver Coil, THT, works with Qi Rx IC's, 8μH, 80W; Manufacturer Part Number: 760308102207; Manufacturer: Wurth Elektronik; DC Resistance Max: 80mΩ; Q Factor: 30; Rated Current: 5A; Self Resonant Frequency: 16MHz; Category: Wireless Power Transmission; Match Code: WE-WPCC; ComponentLink1Description: Website Link; ComponentLink1URL: https://www.we-online.com/redexpert/article/760308102207?ad; ComponentLink2Description: Datasheet Link; ComponentLink2URL: https://www.we-online.com/redexpert/spec/760308102207?ad; Mount: Through Hole; Min Operating Temperature: -20°C; Max Operating Temperature: 105°C; Packaging: Tray; Length: 40mm; Width: 40mm; Height: 1.2mm; Compliance: works with Qi Rx IC's; Inductance: 8μH; Power Capability: 80W
footprint 760308102207
pins: 1, 2

## 760308102210
designator U?, comment 7.5μH  (value not drawn)
WE-WPCC Wireless Power Transfer Receiver Coil, THT, Qi - Airfuel Alliance, 7.5μH, 50W; Manufacturer Part Number: 760308102210; Manufacturer: Wurth Elektronik; DC Resistance Max: 180mΩ; Q Factor: 45; Rated Current: 3A; Self Resonant Frequency: 22MHz; Category: Wireless Power Transmission; Match Code: WE-WPCC; ComponentLink1Description: Website Link; ComponentLink1URL: https://www.we-online.com/redexpert/article/760308102210?ad; ComponentLink2Description: Datasheet Link; ComponentLink2URL: https://www.we-online.com/redexpert/spec/760308102210?ad; Mount: Through Hole; Min Operating Temperature: -20°C; Max Operating Temperature: 105°C; Packaging: Tray; Length: 37mm; Width: 37mm; Height: 1.8mm; Compliance: Qi - Airfuel Alliance; Inductance: 7.5μH; Power Capability: 50W
footprint 760308102210
pins: 1, 2

## 760308102212
designator U?, comment 5.4μH  (value not drawn)
WE-WPCC Wireless Power Transfer Receiver Coil, THT, works with Qi Rx IC's, 5.4μH, 30W; Manufacturer Part Number: 760308102212; Manufacturer: Wurth Elektronik; DC Resistance Max: 240mΩ; Q Factor: 18; Rated Current: 2A; Self Resonant Frequency: 25MHz; Category: Wireless Power Transmission; Match Code: WE-WPCC; ComponentLink1Description: Website Link; ComponentLink1URL: https://www.we-online.com/redexpert/article/760308102212?ad; ComponentLink2Description: Datasheet Link; ComponentLink2URL: https://www.we-online.com/redexpert/spec/760308102212?ad; Mount: Through Hole; Min Operating Temperature: -20°C; Max Operating Temperature: 105°C; Packaging: Tray; Length: 29mm; Width: 29mm; Height: 0.6mm; Compliance: works with Qi Rx IC's; Inductance: 5.4μH; Power Capability: 30W
footprint 760308102212
pins: 1, 2

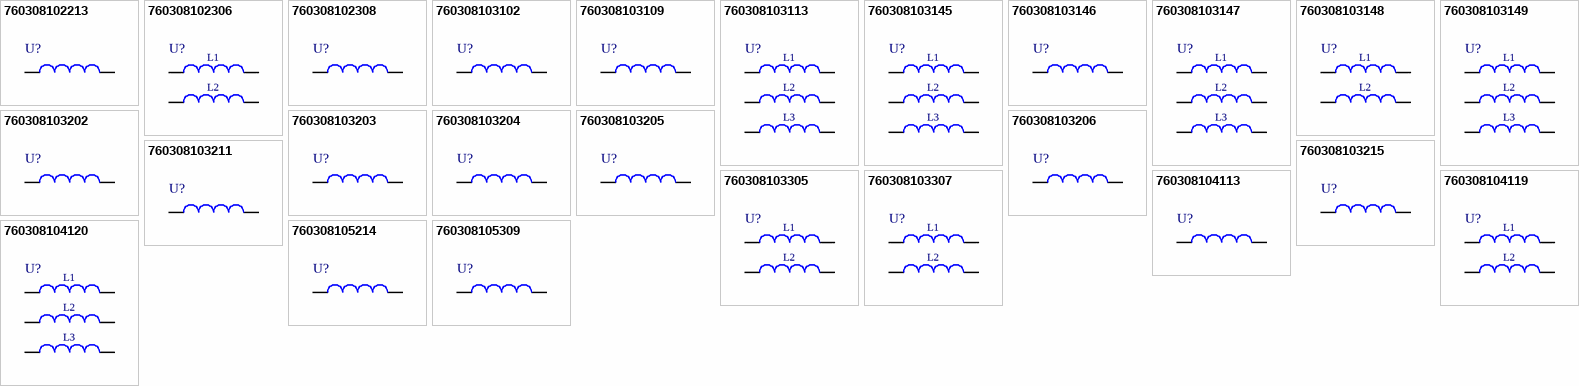
[diagram p1: symbols 760308102213 to 760308105309]

## 760308102213
designator U?, comment 7.9μH  (value not drawn)
WE-WPCC Wireless Power Transfer Receiver Coil, THT, Qi - Airfuel Alliance, 7.9μH, 30W; Manufacturer Part Number: 760308102213; Manufacturer: Wurth Elektronik; DC Resistance Max: 330mΩ; Q Factor: 18; Rated Current: 1.7A; Self Resonant Frequency: 21MHz; Category: Wireless Power Transmission; Match Code: WE-WPCC; ComponentLink1Description: Website Link; ComponentLink1URL: https://www.we-online.com/redexpert/article/760308102213?ad; ComponentLink2Description: Datasheet Link; ComponentLink2URL: https://www.we-online.com/redexpert/spec/760308102213?ad; Mount: Through Hole; Min Operating Temperature: -20°C; Max Operating Temperature: 105°C; Packaging: Tray; Length: 29mm; Width: 29mm; Height: 0.6mm; Compliance: Qi - Airfuel Alliance; Inductance: 7.9μH; Power Capability: 30W
footprint 760308102213
pins: 1, 2

## 760308102306
designator U?, comment 8μH / 1.4μH  (value not drawn)
WE-WPCC WPT/NFC Combination Coil, THT, Qi - Airfuel Alliance - NFC, 8μH / 1.4μH, 40W; Manufacturer Part Number: 760308102306; Manufacturer: Wurth Elektronik; DC Resistance Max: 400mΩ; DC Resistance Max 2: 100mΩ; Q Factor: 19; Q Factor 2: 47; Rated Current: 2A; Rated Current 2: 5A; Self Resonant Frequency: 17.5MHz; Self Resonant Frequency 2: 50MHz; Category: Wireless Power Transmission; Match Code: WE-WPCC; ComponentLink1Description: Website Link; ComponentLink1URL: https://www.we-online.com/redexpert/article/760308102306?ad; ComponentLink2Description: Datasheet Link; ComponentLink2URL: https://www.we-online.com/redexpert/spec/760308102306?ad; Mount: Through Hole; Min Operating Temperature: -20°C; Max Operating Temperature: 105°C; Packaging: Tray; Length: 44mm; Width: 44mm; Height: 1mm; Compliance: Qi - Airfuel Alliance - NFC; Inductance: 8μH; Inductance 2: 1.4μH; Power Capability: 40W
footprint 760308102306
pins: 1, 2, 3, 4
text: L1; L2

## 760308102308
designator U?, comment 3μH  (value not drawn)
WE-WPCC Wireless Power Transfer Transmitter Coil, THT, works with Qi Tx IC's, 3μH, 150W; Manufacturer Part Number: 760308102308; Manufacturer: Wurth Elektronik; DC Resistance Max: 35mΩ; Q Factor: 60; Rated Current: 8.5A; Self Resonant Frequency: 27MHz; Category: Wireless Power Transmission; Match Code: WE-WPCC; ComponentLink1Description: Website Link; ComponentLink1URL: https://www.we-online.com/redexpert/article/760308102308?ad; ComponentLink2Description: Datasheet Link; ComponentLink2URL: https://www.we-online.com/redexpert/spec/760308102308?ad; Mount: Through Hole; Min Operating Temperature: -20°C; Max Operating Temperature: 105°C; Packaging: Tray; Length: 50mm; Width: 30mm; Height: 2.4mm; Compliance: works with Qi Tx IC's; Inductance: 3μH; Power Capability: 150W
footprint 760308102308
pins: 1, 2

## 760308103102
designator U?, comment 10μH  (value not drawn)
WE-WPCC Wireless Power Transfer Transmitter Coil, THT, Qi - MP-A2, 10μH, 150W; Manufacturer Part Number: 760308103102; Manufacturer: Wurth Elektronik; DC Resistance Max: 55mΩ; Q Factor: 130; Rated Current: 7A; Self Resonant Frequency: 11MHz; Category: Wireless Power Transmission; Match Code: WE-WPCC; ComponentLink1Description: Website Link; ComponentLink1URL: https://www.we-online.com/redexpert/article/760308103102?ad; ComponentLink2Description: Datasheet Link; ComponentLink2URL: https://www.we-online.com/redexpert/spec/760308103102?ad; Mount: Through Hole; Min Operating Temperature: -20°C; Max Operating Temperature: 105°C; Packaging: Tray; Length: 53mm; Width: 53mm; Height: 4.5mm; Compliance: Qi - MP-A2; Inductance: 10μH; Power Capability: 150W
footprint 760308103102
pins: 1, 2

## 760308103109
designator U?, comment 10.2μH  (value not drawn)
WE-WPCC Wireless Power Transfer Transmitter Coil, THT, Qi - MP - A9, 10.2μH, 150W; Manufacturer Part Number: 760308103109; Manufacturer: Wurth Elektronik; DC Resistance Max: 50mΩ; Q Factor: 130; Rated Current: 9A; Self Resonant Frequency: 11MHz; Category: Wireless Power Transmission; Match Code: WE-WPCC; ComponentLink1Description: Website Link; ComponentLink1URL: https://www.we-online.com/redexpert/article/760308103109?ad; ComponentLink2Description: Datasheet Link; ComponentLink2URL: https://www.we-online.com/redexpert/spec/760308103109?ad; Mount: Through Hole; Min Operating Temperature: -20°C; Max Operating Temperature: 105°C; Packaging: Tray; Length: 57mm; Width: 51mm; Height: 4.2mm; Compliance: Qi - MP - A9; Inductance: 10.2μH; Power Capability: 150W
footprint 760308103109
pins: 1, 2

## 760308103113
designator U?, comment 12.5μH / 11.5μH / 12.5μH  (value not drawn)
WE-WPCC Wireless Power Array, THT, Qi - MP-A13 3-coil array, 12.5μH / 11.5μH / 12.5μH, 150W; Manufacturer Part Number: 760308103113; Manufacturer: Wurth Elektronik; DC Resistance Max: 65mΩ; Q Factor: 125; Q Factor 2: 115; Rated Current: 9A; Self Resonant Frequency: 14MHz; Category: Wireless Power Transmission; Match Code: WE-WPCC; ComponentLink1Description: Website Link; ComponentLink1URL: https://www.we-online.com/redexpert/article/760308103113?ad; ComponentLink2Description: Datasheet Link; ComponentLink2URL: https://www.we-online.com/redexpert/spec/760308103113?ad; Mount: Through Hole; Min Operating Temperature: -20°C; Max Operating Temperature: 105°C; Packaging: Tray; Length: 100mm; Width: 55mm; Height: 4.5mm; Compliance: Qi - MP-A13 3-coil array; DC Resistance Max 2: 65mΩ; DC Resistance Max 3: 65mΩ; Inductance: 12.5μH; Inductance 2: 11.5μH; Inductance 3: 12.5μH; Power Capability: 150W; Q Factor 3: 125; Rated Current 2: 9A; Rated Current 3: 9A; Self Resonant Frequency 2: 14MHz; Self Resonant Frequency 3: 14MHz
footprint 760308103113
pins: 1, 2, 3, 4, 5, 6
text: L1; L2; L3

## 760308103145
designator U?, comment 11.3μH / 11.3μH / 11.3μH  (value not drawn)
WE-WPCC Wireless Power Array, THT, Qi - MP-A6, 11.3μH / 11.3μH / 11.3μH, 150W; Manufacturer Part Number: 760308103145; Manufacturer: Wurth Elektronik; DC Resistance Max: 83mΩ; Q Factor: 150; Q Factor 3: 145; Rated Current: 8.5A; Self Resonant Frequency: 10MHz; Category: Wireless Power Transmission; Match Code: WE-WPCC; ComponentLink1Description: Website Link; ComponentLink1URL: https://www.we-online.com/redexpert/article/760308103145?ad; ComponentLink2Description: Datasheet Link; ComponentLink2URL: https://www.we-online.com/redexpert/spec/760308103145?ad; Mount: Through Hole; Min Operating Temperature: -20°C; Max Operating Temperature: 105°C; Packaging: Tray; Length: 109mm; Width: 56mm; Height: 5.2mm; Compliance: Qi - MP-A6; DC Resistance Max 2: 83mΩ; DC Resistance Max 3: 83mΩ; Inductance: 11.3μH; Inductance 2: 11.3μH; Inductance 3: 11.3μH; Power Capability: 150W; Q Factor 2: 150; Rated Current 2: 8.5A; Rated Current 3: 8.5A; Self Resonant Frequency 2: 10MHz; Self Resonant Frequency 3: 10MHz
footprint 760308103145
pins: 1, 2, 3, 4, 5, 6
text: L1; L2; L3

## 760308103146
designator U?, comment 8.5μH  (value not drawn)
WE-WPCC Wireless Power Transfer Transmitter Coil, THT, Qi - MP-A8, 8.5μH, 100W; Manufacturer Part Number: 760308103146; Manufacturer: Wurth Elektronik; DC Resistance Max: 56mΩ; Q Factor: 140; Rated Current: 8A; Self Resonant Frequency: 11MHz; Category: Wireless Power Transmission; Match Code: WE-WPCC; ComponentLink1Description: Website Link; ComponentLink1URL: https://www.we-online.com/redexpert/article/760308103146?ad; ComponentLink2Description: Datasheet Link; ComponentLink2URL: https://www.we-online.com/redexpert/spec/760308103146?ad; Mount: Through Hole; Min Operating Temperature: -20°C; Max Operating Temperature: 105°C; Packaging: Tray; Length: 55mm; Width: 47mm; Height: 4.5mm; Compliance: Qi - MP-A8; Inductance: 8.5μH; Power Capability: 100W
footprint 760308103146
pins: 1, 2

## 760308103147
designator U?, comment 8.5μH / 7.5μH / 8.5μH  (value not drawn)
WE-WPCC Wireless Power Array, THT, MP-A8 3-coil array, 8.5μH / 7.5μH / 8.5μH, 150W; Manufacturer Part Number: 760308103147; Manufacturer: Wurth Elektronik; DC Resistance Max: 56mΩ; Q Factor: 145; Q Factor 2: 130; Rated Current: 9A; Rated Current 2: 10A; Self Resonant Frequency: 11MHz; Category: Wireless Power Transmission; Match Code: WE-WPCC; ComponentLink1Description: Website Link; ComponentLink1URL: https://www.we-online.com/redexpert/article/760308103147?ad; ComponentLink2Description: Datasheet Link; ComponentLink2URL: https://www.we-online.com/redexpert/spec/760308103147?ad; Mount: Through Hole; Min Operating Temperature: -20°C; Max Operating Temperature: 105°C; Packaging: Tray; Length: 100mm; Width: 55mm; Height: 5.2mm; Compliance: MP-A8 3-coil array; DC Resistance Max 2: 56mΩ; DC Resistance Max 3: 56mΩ; Inductance: 8.5μH; Inductance 2: 7.5μH; Inductance 3: 8.5μH; Power Capability: 150W; Q Factor 3: 145; Rated Current 3: 9A; Self Resonant Frequency 2: 11MHz; Self Resonant Frequency 3: 11MHz
footprint 760308103147
pins: 1, 2, 3, 4, 5, 6
text: L1; L2; L3

## 760308103148
designator U?, comment 6.9μH / 6.4μH  (value not drawn)
WE-WPCC Wireless Power Array, THT, A28 two-coil array, 6.9μH / 6.4μH, 150W; Manufacturer Part Number: 760308103148; Manufacturer: Wurth Elektronik; DC Resistance Max: 52mΩ; Q Factor: 120; Q Factor 2: 115; Rated Current: 8.5A; Self Resonant Frequency: 15MHz; Self Resonant Frequency 2: 19MHz; Category: Wireless Power Transmission; Match Code: WE-WPCC; ComponentLink1Description: Website Link; ComponentLink1URL: https://www.we-online.com/redexpert/article/760308103148?ad; ComponentLink2Description: Datasheet Link; ComponentLink2URL: https://www.we-online.com/redexpert/spec/760308103148?ad; Mount: Through Hole; Min Operating Temperature: -20°C; Max Operating Temperature: 105°C; Packaging: Tray; Length: 71mm; Width: 61mm; Height: 4mm; Compliance: A28 two-coil array; DC Resistance Max 2: 52mΩ; Inductance: 6.9μH; Inductance 2: 6.4μH; Power Capability: 150W; Rated Current 2: 8.5A
footprint 760308103148
pins: 1, 2, 3, 4
text: L1; L2

## 760308103149
designator U?, comment 10.2μH / 9.8μH / 10.2μH  (value not drawn)
WE-WPCC Wireless Power Array, THT, Qi - MP-A9 3-coil array, 10.2μH / 9.8μH / 10.2μH, 150W; Manufacturer Part Number: 760308103149; Manufacturer: Wurth Elektronik; DC Resistance Max: 55mΩ; Q Factor: 135; Q Factor 2: 130; Rated Current: 9A; Self Resonant Frequency: 8MHz; Category: Wireless Power Transmission; Match Code: WE-WPCC; ComponentLink1Description: Website Link; ComponentLink1URL: https://www.we-online.com/redexpert/article/760308103149?ad; ComponentLink2Description: Datasheet Link; ComponentLink2URL: https://www.we-online.com/redexpert/spec/760308103149?ad; Mount: Through Hole; Min Operating Temperature: -20°C; Max Operating Temperature: 105°C; Packaging: Tray; Length: 106mm; Width: 57mm; Height: 4.2mm; Compliance: Qi - MP-A9 3-coil array; DC Resistance Max 2: 55mΩ; DC Resistance Max 3: 55mΩ; Inductance: 10.2μH; Inductance 2: 9.8μH; Inductance 3: 10.2μH; Power Capability: 150W; Q Factor 3: 135; Rated Current 2: 9A; Rated Current 3: 9A; Self Resonant Frequency 2: 8MHz; Self Resonant Frequency 3: 8MHz
footprint 760308103149
pins: 1, 2, 3, 4, 5, 6
text: L1; L2; L3

## 760308103202
designator U?, comment 12μH  (value not drawn)
WE-WPCC Wireless Power Transfer Receiver Coil, THT, works with Qi Rx IC's, 12μH, 50W; Manufacturer Part Number: 760308103202; Manufacturer: Wurth Elektronik; DC Resistance Max: 200mΩ; Q Factor: 33; Rated Current: 3A; Self Resonant Frequency: 13MHz; Category: Wireless Power Transmission; Match Code: WE-WPCC; ComponentLink1Description: Website Link; ComponentLink1URL: https://www.we-online.com/redexpert/article/760308103202?ad; ComponentLink2Description: Datasheet Link; ComponentLink2URL: https://www.we-online.com/redexpert/spec/760308103202?ad; Mount: Through Hole; Min Operating Temperature: -20°C; Max Operating Temperature: 105°C; Packaging: Tray; Length: 48mm; Width: 32mm; Height: 0.9mm; Compliance: works with Qi Rx IC's; Inductance: 12μH; Power Capability: 50W
footprint 760308103202
pins: 1, 2

## 760308103203
designator U?, comment 12μH  (value not drawn)
WE-WPCC Wireless Power Transfer Receiver Coil, THT, works with Qi Rx IC's, 12μH, 20W; Manufacturer Part Number: 760308103203; Manufacturer: Wurth Elektronik; DC Resistance Max: 360mΩ; Q Factor: 21; Rated Current: 1.8A; Self Resonant Frequency: 11MHz; Category: Wireless Power Transmission; Match Code: WE-WPCC; ComponentLink1Description: Website Link; ComponentLink1URL: https://www.we-online.com/redexpert/article/760308103203?ad; ComponentLink2Description: Datasheet Link; ComponentLink2URL: https://www.we-online.com/redexpert/spec/760308103203?ad; Mount: Through Hole; Min Operating Temperature: -20°C; Max Operating Temperature: 105°C; Packaging: Tray; Length: 48mm; Width: 32mm; Height: 0.8mm; Compliance: works with Qi Rx IC's; Inductance: 12μH; Power Capability: 20W
footprint 760308103203
pins: 1, 2

## 760308103204
designator U?, comment 16.7μH  (value not drawn)
WE-WPCC Wireless Power Transfer Receiver Coil, THT, works with Qi Rx IC's, 16.7μH, 30W; Manufacturer Part Number: 760308103204; Manufacturer: Wurth Elektronik; DC Resistance Max: 430mΩ; Q Factor: 32; Rated Current: 2A; Self Resonant Frequency: 11MHz; Category: Wireless Power Transmission; Match Code: WE-WPCC; ComponentLink1Description: Website Link; ComponentLink1URL: https://www.we-online.com/redexpert/article/760308103204?ad; ComponentLink2Description: Datasheet Link; ComponentLink2URL: https://www.we-online.com/redexpert/spec/760308103204?ad; Mount: Through Hole; Min Operating Temperature: -20°C; Max Operating Temperature: 105°C; Packaging: Tray; Length: 38mm; Width: 30mm; Height: 0.8mm; Compliance: works with Qi Rx IC's; Inductance: 16.7μH; Power Capability: 30W
footprint 760308103204
pins: 1, 2

## 760308103205
designator U?, comment 11μH  (value not drawn)
WE-WPCC Wireless Power Transfer Receiver Coil, THT, works with Qi Rx IC's, 11μH, 40W; Manufacturer Part Number: 760308103205; Manufacturer: Wurth Elektronik; DC Resistance Max: 200mΩ; Q Factor: 30; Rated Current: 2.5A; Self Resonant Frequency: 16MHz; Category: Wireless Power Transmission; Match Code: WE-WPCC; ComponentLink1Description: Website Link; ComponentLink1URL: https://www.we-online.com/redexpert/article/760308103205?ad; ComponentLink2Description: Datasheet Link; ComponentLink2URL: https://www.we-online.com/redexpert/spec/760308103205?ad; Mount: Through Hole; Min Operating Temperature: -20°C; Max Operating Temperature: 105°C; Packaging: Tray; Length: 34mm; Width: 26mm; Height: 0.9mm; Compliance: works with Qi Rx IC's; Inductance: 11μH; Power Capability: 40W
footprint 760308103205
pins: 1, 2